# EAGLE library part *14 (library digital)
74xx14: Hex inverter with Schmitt trigger
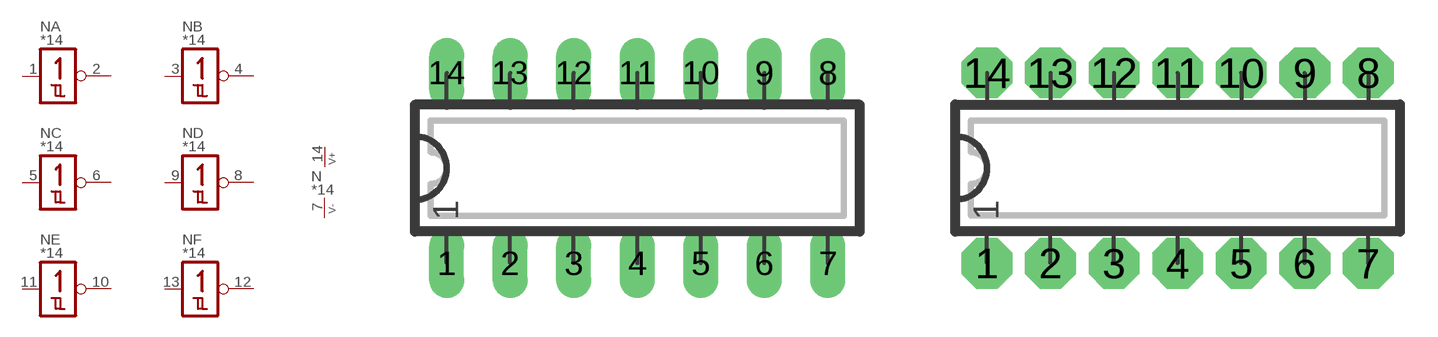
[diagram p65: symbol with the pads of DIP14L; footprints DIP14L, DIP14N]

Designator prefix N; gates A=INVSCHMITT B=INVSCHMITT C=INVSCHMITT D=INVSCHMITT E=INVSCHMITT F=INVSCHMITT P=V+-

## 74AC14, 74ACT14, 74ALS14, 74C14, 74HC14, 74HCT14, 74LS14  [DIP14L]
1  A:IN  in
2  A:OUT  out
3  B:IN  in
4  B:OUT  out
5  C:IN  in
6  C:OUT  out
7  P:V-  pwr
8  D:OUT  out
9  D:IN  in
10  E:OUT  out
11  E:IN  in
12  F:OUT  out
13  F:IN  in
14  P:V+  pwr

## 74AC14L, 74ACT14L, 74ALS14L, 74C14L, 74HC14L, 74HCT14L, 74LS14L  [DIP14L]
Pads as for DIP14L

## 74AC14N, 74ACT14N, 74ALS14N, 74C14N, 74HC14N, 74HCT14N, 74LS14N  [DIP14N]
Pads as for DIP14L

## 74AC14R, 74ACT14R, 74ALS14R, 74C14R, 74HC14R, 74HCT14R, 74LS14R  [DIP14R]
Pads as for DIP14L

## 74AC14S, 74ACT14S, 74AHC14S, 74AHCT14S, 74ALS14S, 74C14S, 74HC14S, 74HCT14S, 74LCX14S, 74LS14S, 74LVT14S  [SO14]
Pads as for DIP14L

## Footprint DIP14L (pad centres in mm)
DIP-14, long pads Standard IC package, 14 pins
drill 0.813 pad 1.397 long: 1 0,0; 2 2.54,0; 3 5.08,0; 4 7.62,0; 5 10.16,0; 6 12.7,0; 7 15.24,0; 8 15.24,7.62; 9 12.7,7.62; 10 10.16,7.62; 11 7.62,7.62; 12 5.08,7.62; 13 2.54,7.62; 14 0,7.62

## Footprint DIP14N (pad centres in mm)
DIP-14 Standard IC package, 14 pins
drill 0.813 pad 2.032 octagon: 1 0,0; 2 2.54,0; 3 5.08,0; 4 7.62,0; 5 10.16,0; 6 12.7,0; 7 15.24,0; 8 15.24,7.62; 9 12.7,7.62; 10 10.16,7.62; 11 7.62,7.62; 12 5.08,7.62; 13 2.54,7.62; 14 0,7.62

## Footprint DIP14R (pad centres in mm)
DIP-14, reduced pads Standard IC package, 14 pins
drill 0.813 pad 1.397 square: 1 0,0; 2 2.54,0; 3 5.08,0; 4 7.62,0; 5 10.16,0; 6 12.7,0; 7 15.24,0; 8 15.24,7.62; 9 12.7,7.62; 10 10.16,7.62; 11 7.62,7.62; 12 5.08,7.62; 13 2.54,7.62; 14 0,7.62

## Footprint SO14 (pad centres in mm)
SO-14, SMD SOIC IC package, 14 pins
smd 0.635 x 1.778: 1 -3.81,-2.857; 2 -2.54,-2.857; 3 -1.27,-2.857; 4 0,-2.857; 5 1.27,-2.857; 6 2.54,-2.857; 7 3.81,-2.857; 8 3.81,2.857; 9 2.54,2.857; 10 1.27,2.857; 11 0,2.857; 12 -1.27,2.857; 13 -2.54,2.857; 14 -3.81,2.857